# Altium schematic symbol library Sonar.SchLib: 4 symbols
Pins are listed as number, name and electrical type; pins without a type are passive.

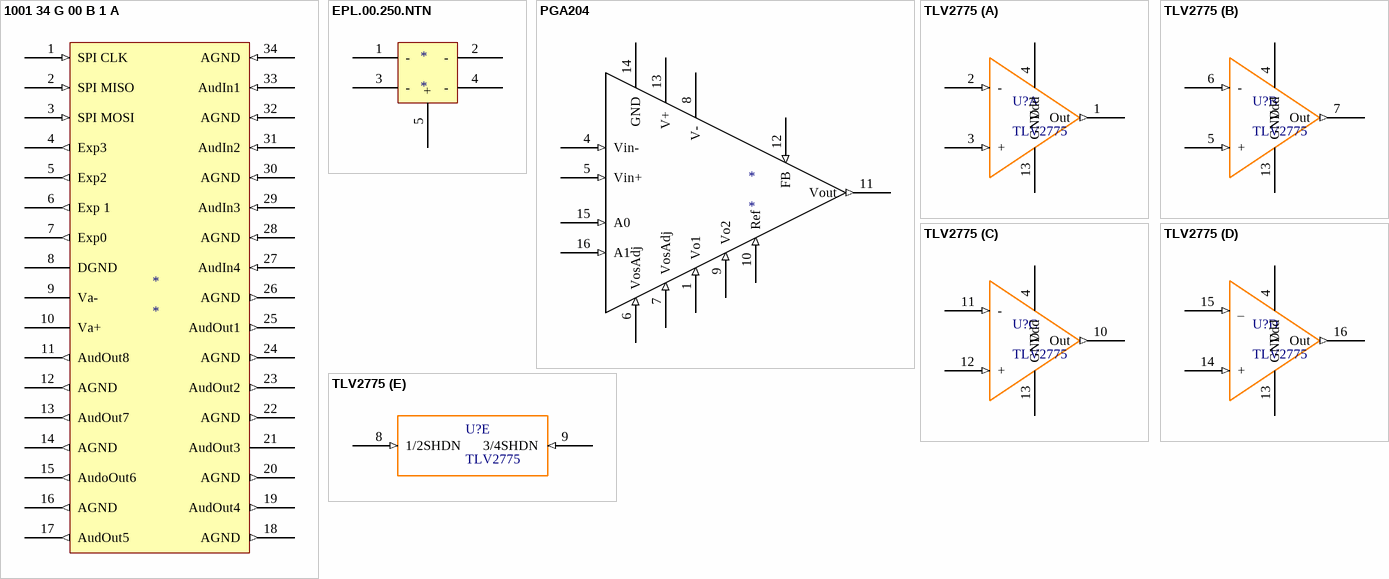
[diagram p0: symbols 1001 34 G 00 B 1 A to TLV2775]

## 1001 34 G 00 B 1 A
designator *
pins: 1 SPI CLK (in), 2 SPI MISO (in), 3 SPI MOSI (in), 4 Exp3 (out), 5 Exp2 (out), 6 Exp 1 (out), 7 Exp0 (out), 8 DGND, 9 Va- (power), 10 Va+ (power), 11 AudOut8 (out), 12 AGND (out), 13 AudOut7 (out), 14 AGND (out), 15 AudoOut6 (out), 16 AGND (out), 17 AudOut5 (out), 18 AGND (out), 19 AudOut4 (out), 20 AGND (out), 21 AudOut3 (power), 22 AGND (out), 23 AudOut2 (out), 24 AGND (out), 25 AudOut1 (out), 26 AGND (out), 27 AudIn4 (in), 28 AGND (in), 29 AudIn3 (in), 30 AGND (in), 31 AudIn2 (in), 32 AGND (in), 33 AudIn1 (in), 34 AGND (in)

## EPL.00.250.NTN
designator *
footprint EPL.00.250.NTN (LEMO coax connector)
footprint EPL.00.250.NTN (LEMO coax connector)
footprint EPL.00.250.NTN_1 (LEMO coax connector)
pins: 1 -, 2 -, 3 -, 4 -, 5 +

## PGA204
designator *
footprint SOIC 16 (SOIC, 8-Leads, Body 5.0x4.0mm (max), Pitch 1.27mm, IPC Medium Density)
pins: 1 Vo1 (in), 4 Vin- (in), 5 Vin+ (in), 6 VosAdj (in), 7 VosAdj (in), 8 V- (power), 9 Vo2 (in), 10 Ref (in), 11 Vout (out), 12 FB (in), 13 V+ (power), 14 GND (power), 15 A0 (in), 16 A1 (in)

## TLV2775
designator U?
2.7 V High-Slew-Rate Rail-to-Rail Output Operation Amplifer with ShutDown
footprint TlV2775AIPW (IC OPAMP GP R-R 5.1MHZ 16TSSOP)
part A pins: 1 Out (out), 2 - (in), 3 + (in), 4 Vdd (power), 13 GND (power)
part B pins: 4 Vdd (power), 5 + (in), 6 - (in), 7 Out (out), 13 GND (power)
part C pins: 4 Vdd (power), 10 Out (out), 11 - (in), 12 + (in), 13 GND (power)
part D pins: 4 Vdd (power), 13 GND (power), 14 + (in), 15 _ (in), 16 Out (out)
part E pins: 8 1/2SHDN (in), 9 3/4SHDN (in)